# Altium schematic symbol library CD4081B.SchLib: 1 symbol
Pins are listed as number, name and electrical type; pins without a type are passive.

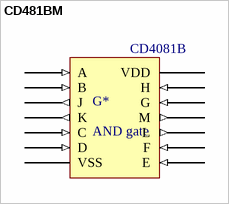
[diagram p0: symbol CD481BM]

## CD481BM
designator G*, comment AND gate
4 Circuits 2 Inputs AND Gate
footprint SOIC127P600X175-14N (SOIC, 14-Leads, Body 8.65x3.90mm, Pitch 1.27mm, IPC Medium Density)
pins: 1 A (in), 2 B (in), 3 J (out), 4 K (out), 5 C (in), 6 D (in), 7 VSS (power), 8 E (in), 9 F (in), 10 L (out), 11 M (out), 12 G (in), 13 H (in), 14 VDD (power)
text: CD4081B